# EAGLE library part UDA1380HN (library microbuilder)
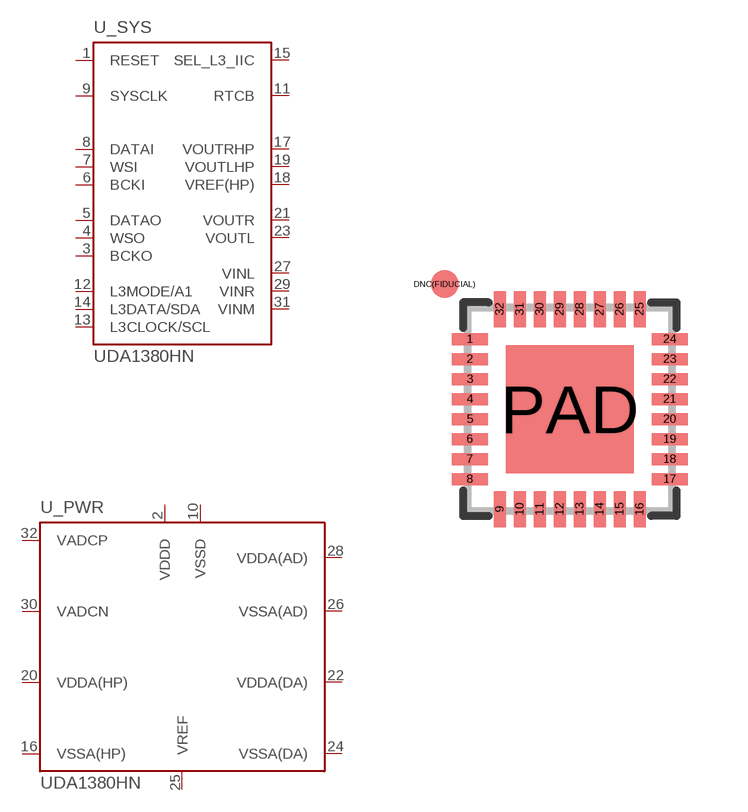
[diagram p150: symbol with the pads of HVQFN32; footprint HVQFN32]

Designator prefix U; gates _PWR=UDA1380_POWER _SYS=UDA1380

## UDA1380HN  [HVQFN32]
1  _SYS:RESET  in
2  _PWR:VDDD  pwr
3  _SYS:BCKO
4  _SYS:WSO
5  _SYS:DATAO  out
6  _SYS:BCKI  in
7  _SYS:WSI  in
8  _SYS:DATAI  in
9  _SYS:SYSCLK  in
10  _PWR:VSSD  pwr
11  _SYS:RTCB  in
12  _SYS:L3MODE/A1  in
13  _SYS:L3CLOCK/SCL  in
14  _SYS:L3DATA/SDA
15  _SYS:SEL_L3_IIC  in
16  _PWR:VSSA(HP)  pwr
17  _SYS:VOUTRHP  out
18  _SYS:VREF(HP)
19  _SYS:VOUTLHP  out
20  _PWR:VDDA(HP)  pwr
21  _SYS:VOUTR  out
22  _PWR:VDDA(DA)  pwr
23  _SYS:VOUTL  out
24  _PWR:VSSA(DA)  pwr
25  _PWR:VREF  pwr
26  _PWR:VSSA(AD)  pwr
27  _SYS:VINL  in
28  _PWR:VDDA(AD)  pwr
29  _SYS:VINR  in
30  _PWR:VADCN  pwr
31  _SYS:VINM  in
32  _PWR:VADCP  pwr

## Footprint HVQFN32 (pad centres in mm)
HVQFN32 SOT617-1 JEDEC MO-220
smd 0.9 x 0.3: 1 -2.5,1.75; 2 -2.5,1.25; 3 -2.5,0.75; 4 -2.5,0.25; 5 -2.5,-0.25; 6 -2.5,-0.75; 7 -2.5,-1.25; 8 -2.5,-1.75; 17 2.5,-1.75; 18 2.5,-1.25; 19 2.5,-0.75; 20 2.5,-0.25; 21 2.5,0.25; 22 2.5,0.75; 23 2.5,1.25; 24 2.5,1.75
smd 0.3 x 0.9: 9 -1.75,-2.5; 10 -1.25,-2.5; 11 -0.75,-2.5; 12 -0.25,-2.5; 13 0.25,-2.5; 14 0.75,-2.5; 15 1.25,-2.5; 16 1.75,-2.5; 25 1.75,2.5; 26 1.25,2.5; 27 0.75,2.5; 28 0.25,2.5; 29 -0.25,2.5; 30 -0.75,2.5; 31 -1.25,2.5; 32 -1.75,2.5
smd 0.7 x 0.7: DNC(FIDUCIAL) -3.127,3.127
smd 3.2 x 3.2: PAD 0,0